# Altium footprint library Connector_Molex.PcbLib: 815 footprints (part 7 of 51)
Each footprint in its own frame and in the unit in brackets; x right, y up, seen from the top. Pads: shape width x height; smd on the part's side, far side on the other; paste and mask are expansions set on the pad; w line width, h text height; cw(c..) or ccw(c..) is an arc to the next point about the centre after c.
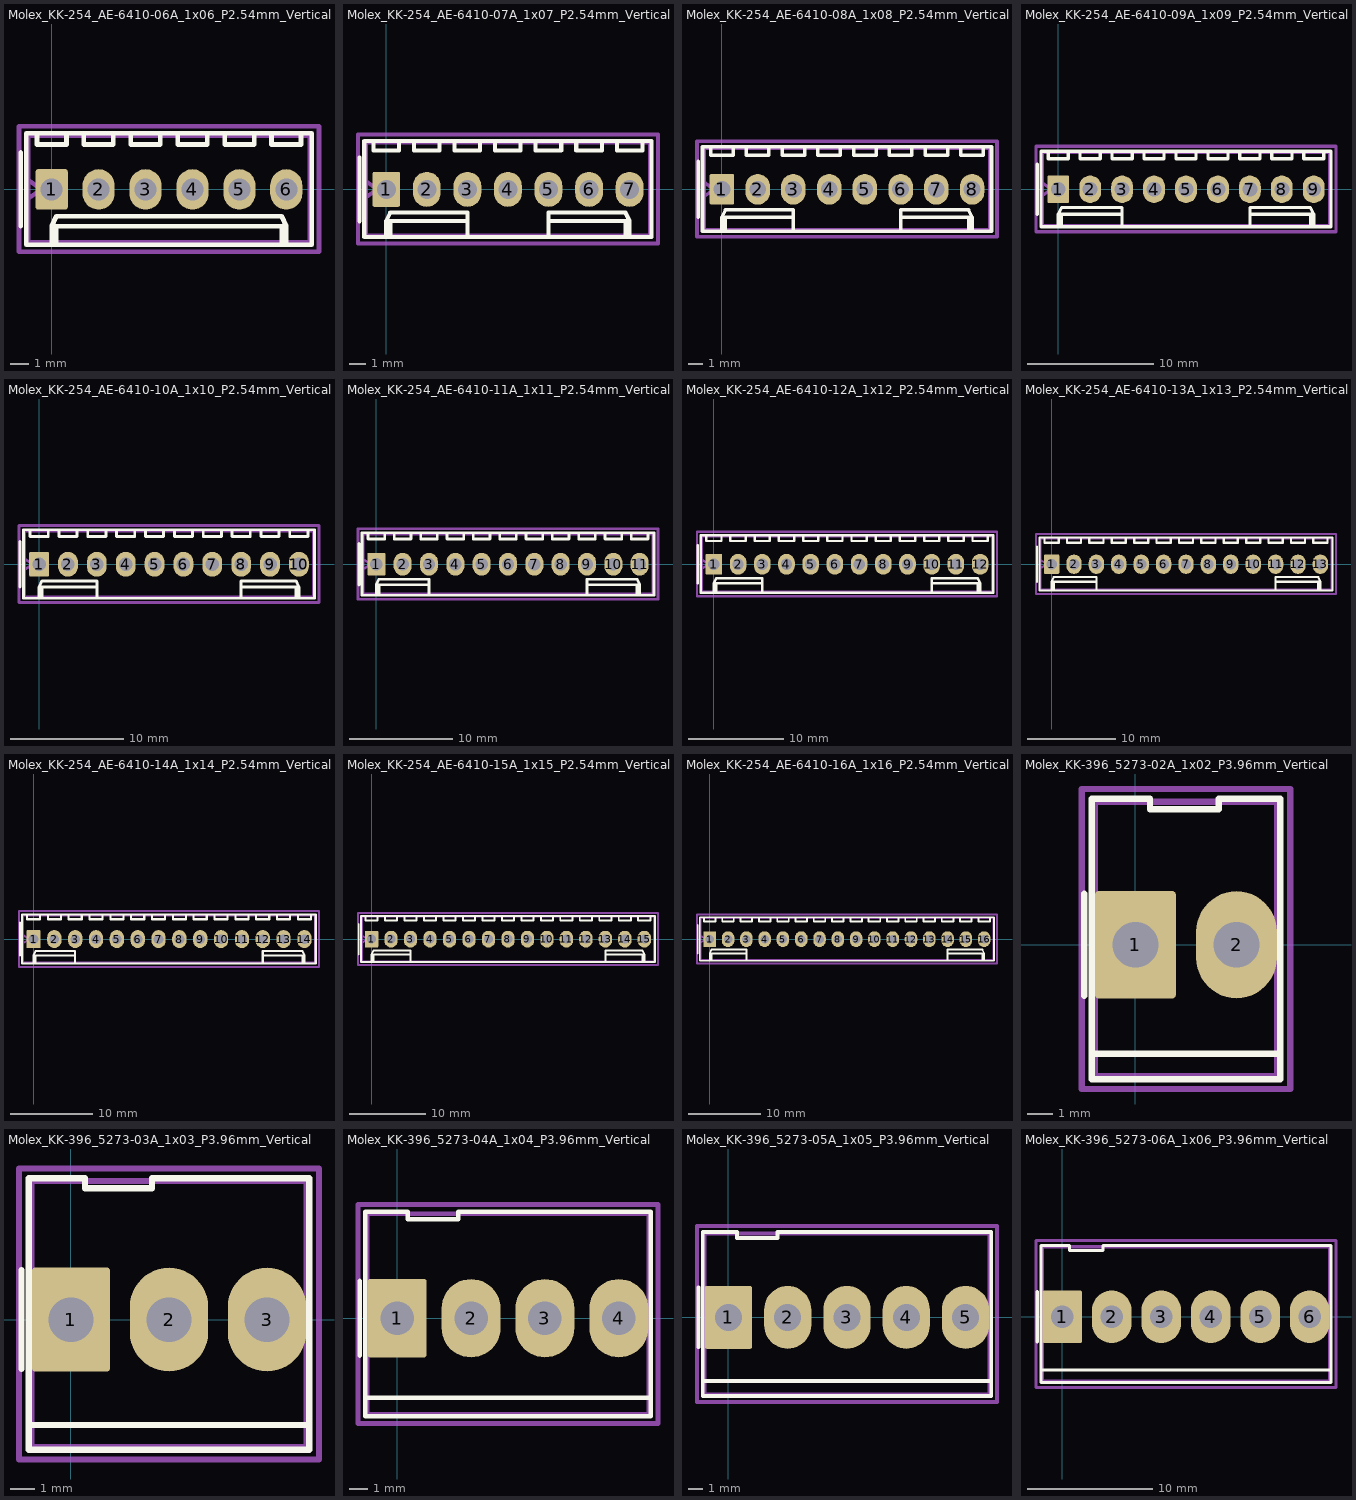
[diagram p6: the footprints below, top view; thin cyan lines are the x and y axes]

## Molex_KK-254_AE-6410-06A_1x06_P2.54mm_Vertical [mm]
pads (6):
  rrect14% 1.74x2.19 hole 1.19: 1(0,0)
  rrect100% 1.74x2.19 hole 1.19: 2(2.54,0) 3(5.08,0) 4(7.62,0) 5(10.16,0) 6(12.7,0)
F.SilkS:
  lines w0.254: -1.67,-2 -1.67,2 ; -0.8,3.03 -0.8,2.43 0.8,2.43 0.8,3.03 ; 0,-2.99 0,-1.99 ; 0.25,-2.99 0.25,-1.99 ; 1.74,3.03 1.74,2.43 3.34,2.43 3.34,3.03 ; 4.28,3.03 4.28,2.43 5.88,2.43 5.88,3.03 ; 6.82,3.03 6.82,2.43 8.42,2.43 8.42,3.03 ; 9.36,3.03 9.36,2.43 10.96,2.43 10.96,3.03 ; 11.9,3.03 11.9,2.43 13.5,2.43 13.5,3.03 ; 12.45,-2.99 12.45,-1.99 ; 12.7,-2.99 12.7,-1.99 ; 0,-1.99 12.7,-1.99 ; 0,-1.99 0.25,-1.46 12.45,-1.46 12.7,-1.99 ; -1.38,-2.99 14.08,-2.99 14.08,3.03 -1.38,3.03 -1.38,-2.99
Top Assembly:
  lines w0.254: -1.27,-0.5 -0.563,0 -1.27,0.5 ; -1.27,-2.88 13.97,-2.88 13.97,2.92 -1.27,2.92 -1.27,-2.88
  text "'.Designator'" at 2.303,1.38 h1
Top Courtyard:
  lines w0.254: -1.77,-3.38 14.47,-3.38 14.47,3.42 -1.77,3.42 -1.77,-3.38
Top Designator:
  text ".Designator" at -1.268,-0.488 h1.52

## Molex_KK-254_AE-6410-07A_1x07_P2.54mm_Vertical [mm]
pads (7):
  rrect14% 1.74x2.19 hole 1.19: 1(0,0)
  rrect100% 1.74x2.19 hole 1.19: 2(2.54,0) 3(5.08,0) 4(7.62,0) 5(10.16,0) 6(12.7,0) 7(15.24,0)
F.SilkS:
  lines w0.254: -1.67,-2 -1.67,2 ; -0.8,3.03 -0.8,2.43 0.8,2.43 0.8,3.03 ; 0,-2.99 0,-1.99 ; 0.25,-2.99 0.25,-1.99 ; 1.74,3.03 1.74,2.43 3.34,2.43 3.34,3.03 ; 4.28,3.03 4.28,2.43 5.88,2.43 5.88,3.03 ; 5.08,-2.99 5.08,-1.99 ; 6.82,3.03 6.82,2.43 8.42,2.43 8.42,3.03 ; 9.36,3.03 9.36,2.43 10.96,2.43 10.96,3.03 ; 10.16,-2.99 10.16,-1.99 ; 11.9,3.03 11.9,2.43 13.5,2.43 13.5,3.03 ; 14.44,3.03 14.44,2.43 16.04,2.43 16.04,3.03 ; 14.99,-2.99 14.99,-1.99 ; 15.24,-2.99 15.24,-1.99 ; 0,-1.99 5.08,-1.99 ; 0,-1.99 0.25,-1.46 5.08,-1.46 5.08,-1.99 ; 10.16,-1.99 15.24,-1.99 ; 10.16,-1.99 10.16,-1.46 14.99,-1.46 15.24,-1.99 ; -1.38,-2.99 16.62,-2.99 16.62,3.03 -1.38,3.03 -1.38,-2.99
Top Assembly:
  lines w0.254: -1.27,-0.5 -0.563,0 -1.27,0.5 ; -1.27,-2.88 16.51,-2.88 16.51,2.92 -1.27,2.92 -1.27,-2.88
  text "'.Designator'" at 3.573,1.38 h1
Top Courtyard:
  lines w0.254: -1.77,-3.38 17.02,-3.38 17.02,3.42 -1.77,3.42 -1.77,-3.38
Top Designator:
  text ".Designator" at 0.007,-0.488 h1.52

## Molex_KK-254_AE-6410-08A_1x08_P2.54mm_Vertical [mm]
pads (8):
  rrect14% 1.74x2.19 hole 1.19: 1(0,0)
  rrect100% 1.74x2.19 hole 1.19: 2(2.54,0) 3(5.08,0) 4(7.62,0) 5(10.16,0) 6(12.7,0) 7(15.24,0) 8(17.78,0)
F.SilkS:
  lines w0.254: -1.67,-2 -1.67,2 ; -0.8,3.03 -0.8,2.43 0.8,2.43 0.8,3.03 ; 0,-2.99 0,-1.99 ; 0.25,-2.99 0.25,-1.99 ; 1.74,3.03 1.74,2.43 3.34,2.43 3.34,3.03 ; 4.28,3.03 4.28,2.43 5.88,2.43 5.88,3.03 ; 5.08,-2.99 5.08,-1.99 ; 6.82,3.03 6.82,2.43 8.42,2.43 8.42,3.03 ; 9.36,3.03 9.36,2.43 10.96,2.43 10.96,3.03 ; 11.9,3.03 11.9,2.43 13.5,2.43 13.5,3.03 ; 12.7,-2.99 12.7,-1.99 ; 14.44,3.03 14.44,2.43 16.04,2.43 16.04,3.03 ; 16.98,3.03 16.98,2.43 18.58,2.43 18.58,3.03 ; 17.53,-2.99 17.53,-1.99 ; 17.78,-2.99 17.78,-1.99 ; 0,-1.99 5.08,-1.99 ; 0,-1.99 0.25,-1.46 5.08,-1.46 5.08,-1.99 ; 12.7,-1.99 17.78,-1.99 ; 12.7,-1.99 12.7,-1.46 17.53,-1.46 17.78,-1.99 ; -1.38,-2.99 19.16,-2.99 19.16,3.03 -1.38,3.03 -1.38,-2.99
Top Assembly:
  lines w0.254: -1.27,-0.5 -0.563,0 -1.27,0.5 ; -1.27,-2.88 19.05,-2.88 19.05,2.92 -1.27,2.92 -1.27,-2.88
  text "'.Designator'" at 4.843,1.38 h1
Top Courtyard:
  lines w0.254: -1.77,-3.38 19.55,-3.38 19.55,3.42 -1.77,3.42 -1.77,-3.38
Top Designator:
  text ".Designator" at 1.272,-0.488 h1.52

## Molex_KK-254_AE-6410-09A_1x09_P2.54mm_Vertical [mm]
pads (9):
  rrect14% 1.74x2.19 hole 1.19: 1(0,0)
  rrect100% 1.74x2.19 hole 1.19: 2(2.54,0) 3(5.08,0) 4(7.62,0) 5(10.16,0) 6(12.7,0) 7(15.24,0) 8(17.78,0) 9(20.32,0)
F.SilkS:
  lines w0.254: -1.67,-2 -1.67,2 ; -0.8,3.03 -0.8,2.43 0.8,2.43 0.8,3.03 ; 0,-2.99 0,-1.99 ; 0.25,-2.99 0.25,-1.99 ; 1.74,3.03 1.74,2.43 3.34,2.43 3.34,3.03 ; 4.28,3.03 4.28,2.43 5.88,2.43 5.88,3.03 ; 5.08,-2.99 5.08,-1.99 ; 6.82,3.03 6.82,2.43 8.42,2.43 8.42,3.03 ; 9.36,3.03 9.36,2.43 10.96,2.43 10.96,3.03 ; 11.9,3.03 11.9,2.43 13.5,2.43 13.5,3.03 ; 14.44,3.03 14.44,2.43 16.04,2.43 16.04,3.03 ; 15.24,-2.99 15.24,-1.99 ; 16.98,3.03 16.98,2.43 18.58,2.43 18.58,3.03 ; 19.52,3.03 19.52,2.43 21.12,2.43 21.12,3.03 ; 20.07,-2.99 20.07,-1.99 ; 20.32,-2.99 20.32,-1.99 ; 0,-1.99 5.08,-1.99 ; 0,-1.99 0.25,-1.46 5.08,-1.46 5.08,-1.99 ; 15.24,-1.99 20.32,-1.99 ; 15.24,-1.99 15.24,-1.46 20.07,-1.46 20.32,-1.99 ; -1.38,-2.99 21.7,-2.99 21.7,3.03 -1.38,3.03 -1.38,-2.99
Top Assembly:
  lines w0.254: -1.27,-0.5 -0.563,0 -1.27,0.5 ; -1.27,-2.88 21.59,-2.88 21.59,2.92 -1.27,2.92 -1.27,-2.88
  text "'.Designator'" at 6.113,1.38 h1
Top Courtyard:
  lines w0.254: -1.77,-3.38 22.09,-3.38 22.09,3.42 -1.77,3.42 -1.77,-3.38
Top Designator:
  text ".Designator" at 2.542,-0.488 h1.52

## Molex_KK-254_AE-6410-10A_1x10_P2.54mm_Vertical [mm]
pads (10):
  rrect14% 1.74x2.19 hole 1.19: 1(0,0)
  rrect100% 1.74x2.19 hole 1.19: 2(2.54,0) 3(5.08,0) 4(7.62,0) 5(10.16,0) 6(12.7,0) 7(15.24,0) 8(17.78,0) 9(20.32,0) 10(22.86,0)
F.SilkS:
  lines w0.254: -1.67,-2 -1.67,2 ; -0.8,3.03 -0.8,2.43 0.8,2.43 0.8,3.03 ; 0,-2.99 0,-1.99 ; 0.25,-2.99 0.25,-1.99 ; 1.74,3.03 1.74,2.43 3.34,2.43 3.34,3.03 ; 4.28,3.03 4.28,2.43 5.88,2.43 5.88,3.03 ; 5.08,-2.99 5.08,-1.99 ; 6.82,3.03 6.82,2.43 8.42,2.43 8.42,3.03 ; 9.36,3.03 9.36,2.43 10.96,2.43 10.96,3.03 ; 11.9,3.03 11.9,2.43 13.5,2.43 13.5,3.03 ; 14.44,3.03 14.44,2.43 16.04,2.43 16.04,3.03 ; 16.98,3.03 16.98,2.43 18.58,2.43 18.58,3.03 ; 17.78,-2.99 17.78,-1.99 ; 19.52,3.03 19.52,2.43 21.12,2.43 21.12,3.03 ; 22.06,3.03 22.06,2.43 23.66,2.43 23.66,3.03 ; 22.61,-2.99 22.61,-1.99 ; 22.86,-2.99 22.86,-1.99 ; 0,-1.99 5.08,-1.99 ; 0,-1.99 0.25,-1.46 5.08,-1.46 5.08,-1.99 ; 17.78,-1.99 22.86,-1.99 ; 17.78,-1.99 17.78,-1.46 22.61,-1.46 22.86,-1.99 ; -1.38,-2.99 24.24,-2.99 24.24,3.03 -1.38,3.03 -1.38,-2.99
Top Assembly:
  lines w0.254: -1.27,-0.5 -0.563,0 -1.27,0.5 ; -1.27,-2.88 24.13,-2.88 24.13,2.92 -1.27,2.92 -1.27,-2.88
  text "'.Designator'" at 7.383,1.38 h1
Top Courtyard:
  lines w0.254: -1.77,-3.38 24.63,-3.38 24.63,3.42 -1.77,3.42 -1.77,-3.38
Top Designator:
  text ".Designator" at 3.812,-0.488 h1.52

## Molex_KK-254_AE-6410-11A_1x11_P2.54mm_Vertical [mm]
pads (11):
  rrect14% 1.74x2.19 hole 1.19: 1(0,0)
  rrect100% 1.74x2.19 hole 1.19: 2(2.54,0) 3(5.08,0) 4(7.62,0) 5(10.16,0) 6(12.7,0) 7(15.24,0) 8(17.78,0) 9(20.32,0) 10(22.86,0) 11(25.4,0)
F.SilkS:
  lines w0.254: -1.67,-2 -1.67,2 ; -0.8,3.03 -0.8,2.43 0.8,2.43 0.8,3.03 ; 0,-2.99 0,-1.99 ; 0.25,-2.99 0.25,-1.99 ; 1.74,3.03 1.74,2.43 3.34,2.43 3.34,3.03 ; 4.28,3.03 4.28,2.43 5.88,2.43 5.88,3.03 ; 5.08,-2.99 5.08,-1.99 ; 6.82,3.03 6.82,2.43 8.42,2.43 8.42,3.03 ; 9.36,3.03 9.36,2.43 10.96,2.43 10.96,3.03 ; 11.9,3.03 11.9,2.43 13.5,2.43 13.5,3.03 ; 14.44,3.03 14.44,2.43 16.04,2.43 16.04,3.03 ; 16.98,3.03 16.98,2.43 18.58,2.43 18.58,3.03 ; 19.52,3.03 19.52,2.43 21.12,2.43 21.12,3.03 ; 20.32,-2.99 20.32,-1.99 ; 22.06,3.03 22.06,2.43 23.66,2.43 23.66,3.03 ; 24.6,3.03 24.6,2.43 26.2,2.43 26.2,3.03 ; 25.15,-2.99 25.15,-1.99 ; 25.4,-2.99 25.4,-1.99 ; 0,-1.99 5.08,-1.99 ; 0,-1.99 0.25,-1.46 5.08,-1.46 5.08,-1.99 ; 20.32,-1.99 25.4,-1.99 ; 20.32,-1.99 20.32,-1.46 25.15,-1.46 25.4,-1.99 ; -1.38,-2.99 26.78,-2.99 26.78,3.03 -1.38,3.03 -1.38,-2.99
Top Assembly:
  lines w0.254: -1.27,-0.5 -0.563,0 -1.27,0.5 ; -1.27,-2.88 26.67,-2.88 26.67,2.92 -1.27,2.92 -1.27,-2.88
  text "'.Designator'" at 8.653,1.38 h1
Top Courtyard:
  lines w0.254: -1.77,-3.38 27.17,-3.38 27.17,3.42 -1.77,3.42 -1.77,-3.38
Top Designator:
  text ".Designator" at 5.082,-0.488 h1.52

## Molex_KK-254_AE-6410-12A_1x12_P2.54mm_Vertical [mm]
pads (12):
  rrect14% 1.74x2.19 hole 1.19: 1(0,0)
  rrect100% 1.74x2.19 hole 1.19: 2(2.54,0) 3(5.08,0) 4(7.62,0) 5(10.16,0) 6(12.7,0) 7(15.24,0) 8(17.78,0) 9(20.32,0) 10(22.86,0) 11(25.4,0) 12(27.94,0)
F.SilkS:
  lines w0.254: -1.67,-2 -1.67,2 ; -0.8,3.03 -0.8,2.43 0.8,2.43 0.8,3.03 ; 0,-2.99 0,-1.99 ; 0.25,-2.99 0.25,-1.99 ; 1.74,3.03 1.74,2.43 3.34,2.43 3.34,3.03 ; 4.28,3.03 4.28,2.43 5.88,2.43 5.88,3.03 ; 5.08,-2.99 5.08,-1.99 ; 6.82,3.03 6.82,2.43 8.42,2.43 8.42,3.03 ; 9.36,3.03 9.36,2.43 10.96,2.43 10.96,3.03 ; 11.9,3.03 11.9,2.43 13.5,2.43 13.5,3.03 ; 14.44,3.03 14.44,2.43 16.04,2.43 16.04,3.03 ; 16.98,3.03 16.98,2.43 18.58,2.43 18.58,3.03 ; 19.52,3.03 19.52,2.43 21.12,2.43 21.12,3.03 ; 22.06,3.03 22.06,2.43 23.66,2.43 23.66,3.03 ; 22.86,-2.99 22.86,-1.99 ; 24.6,3.03 24.6,2.43 26.2,2.43 26.2,3.03 ; 27.14,3.03 27.14,2.43 28.74,2.43 28.74,3.03 ; 27.69,-2.99 27.69,-1.99 ; 27.94,-2.99 27.94,-1.99 ; 0,-1.99 5.08,-1.99 ; 0,-1.99 0.25,-1.46 5.08,-1.46 5.08,-1.99 ; 22.86,-1.99 27.94,-1.99 ; 22.86,-1.99 22.86,-1.46 27.69,-1.46 27.94,-1.99 ; -1.38,-2.99 29.32,-2.99 29.32,3.03 -1.38,3.03 -1.38,-2.99
Top Assembly:
  lines w0.254: -1.27,-0.5 -0.563,0 -1.27,0.5 ; -1.27,-2.88 29.21,-2.88 29.21,2.92 -1.27,2.92 -1.27,-2.88
  text "'.Designator'" at 9.923,1.38 h1
Top Courtyard:
  lines w0.254: -1.77,-3.38 29.71,-3.38 29.71,3.42 -1.77,3.42 -1.77,-3.38
Top Designator:
  text ".Designator" at 6.352,-0.488 h1.52

## Molex_KK-254_AE-6410-13A_1x13_P2.54mm_Vertical [mm]
pads (13):
  rrect14% 1.74x2.19 hole 1.19: 1(0,0)
  rrect100% 1.74x2.19 hole 1.19: 2(2.54,0) 3(5.08,0) 4(7.62,0) 5(10.16,0) 6(12.7,0) 7(15.24,0) 8(17.78,0) 9(20.32,0) 10(22.86,0) 11(25.4,0) 12(27.94,0) 13(30.48,0)
F.SilkS:
  lines w0.254: -1.67,-2 -1.67,2 ; -0.8,3.03 -0.8,2.43 0.8,2.43 0.8,3.03 ; 0,-2.99 0,-1.99 ; 0.25,-2.99 0.25,-1.99 ; 1.74,3.03 1.74,2.43 3.34,2.43 3.34,3.03 ; 4.28,3.03 4.28,2.43 5.88,2.43 5.88,3.03 ; 5.08,-2.99 5.08,-1.99 ; 6.82,3.03 6.82,2.43 8.42,2.43 8.42,3.03 ; 9.36,3.03 9.36,2.43 10.96,2.43 10.96,3.03 ; 11.9,3.03 11.9,2.43 13.5,2.43 13.5,3.03 ; 14.44,3.03 14.44,2.43 16.04,2.43 16.04,3.03 ; 16.98,3.03 16.98,2.43 18.58,2.43 18.58,3.03 ; 19.52,3.03 19.52,2.43 21.12,2.43 21.12,3.03 ; 22.06,3.03 22.06,2.43 23.66,2.43 23.66,3.03 ; 24.6,3.03 24.6,2.43 26.2,2.43 26.2,3.03 ; 25.4,-2.99 25.4,-1.99 ; 27.14,3.03 27.14,2.43 28.74,2.43 28.74,3.03 ; 29.68,3.03 29.68,2.43 31.28,2.43 31.28,3.03 ; 30.23,-2.99 30.23,-1.99 ; 30.48,-2.99 30.48,-1.99 ; 0,-1.99 5.08,-1.99 ; 0,-1.99 0.25,-1.46 5.08,-1.46 5.08,-1.99 ; 25.4,-1.99 30.48,-1.99 ; 25.4,-1.99 25.4,-1.46 30.23,-1.46 30.48,-1.99 ; -1.38,-2.99 31.86,-2.99 31.86,3.03 -1.38,3.03 -1.38,-2.99
Top Assembly:
  lines w0.254: -1.27,-0.5 -0.563,0 -1.27,0.5 ; -1.27,-2.88 31.75,-2.88 31.75,2.92 -1.27,2.92 -1.27,-2.88
  text "'.Designator'" at 11.193,1.38 h1
Top Courtyard:
  lines w0.254: -1.77,-3.38 32.25,-3.38 32.25,3.42 -1.77,3.42 -1.77,-3.38
Top Designator:
  text ".Designator" at 7.622,-0.488 h1.52

## Molex_KK-254_AE-6410-14A_1x14_P2.54mm_Vertical [mm]
pads (14):
  rrect14% 1.74x2.19 hole 1.19: 1(0,0)
  rrect100% 1.74x2.19 hole 1.19: 2(2.54,0) 3(5.08,0) 4(7.62,0) 5(10.16,0) 6(12.7,0) 7(15.24,0) 8(17.78,0) 9(20.32,0) 10(22.86,0) 11(25.4,0) 12(27.94,0) 13(30.48,0) 14(33.02,0)
F.SilkS:
  lines w0.254: -1.67,-2 -1.67,2 ; -0.8,3.03 -0.8,2.43 0.8,2.43 0.8,3.03 ; 0,-2.99 0,-1.99 ; 0.25,-2.99 0.25,-1.99 ; 1.74,3.03 1.74,2.43 3.34,2.43 3.34,3.03 ; 4.28,3.03 4.28,2.43 5.88,2.43 5.88,3.03 ; 5.08,-2.99 5.08,-1.99 ; 6.82,3.03 6.82,2.43 8.42,2.43 8.42,3.03 ; 9.36,3.03 9.36,2.43 10.96,2.43 10.96,3.03 ; 11.9,3.03 11.9,2.43 13.5,2.43 13.5,3.03 ; 14.44,3.03 14.44,2.43 16.04,2.43 16.04,3.03 ; 16.98,3.03 16.98,2.43 18.58,2.43 18.58,3.03 ; 19.52,3.03 19.52,2.43 21.12,2.43 21.12,3.03 ; 22.06,3.03 22.06,2.43 23.66,2.43 23.66,3.03 ; 24.6,3.03 24.6,2.43 26.2,2.43 26.2,3.03 ; 27.14,3.03 27.14,2.43 28.74,2.43 28.74,3.03 ; 27.94,-2.99 27.94,-1.99 ; 29.68,3.03 29.68,2.43 31.28,2.43 31.28,3.03 ; 32.22,3.03 32.22,2.43 33.82,2.43 33.82,3.03 ; 32.77,-2.99 32.77,-1.99 ; 33.02,-2.99 33.02,-1.99 ; 0,-1.99 5.08,-1.99 ; 0,-1.99 0.25,-1.46 5.08,-1.46 5.08,-1.99 ; 27.94,-1.99 33.02,-1.99 ; 27.94,-1.99 27.94,-1.46 32.77,-1.46 33.02,-1.99 ; -1.38,-2.99 34.4,-2.99 34.4,3.03 -1.38,3.03 -1.38,-2.99
Top Assembly:
  lines w0.254: -1.27,-0.5 -0.563,0 -1.27,0.5 ; -1.27,-2.88 34.29,-2.88 34.29,2.92 -1.27,2.92 -1.27,-2.88
  text "'.Designator'" at 12.463,1.38 h1
Top Courtyard:
  lines w0.254: -1.77,-3.38 34.8,-3.38 34.8,3.42 -1.77,3.42 -1.77,-3.38
Top Designator:
  text ".Designator" at 8.897,-0.488 h1.52

## Molex_KK-254_AE-6410-15A_1x15_P2.54mm_Vertical [mm]
pads (15):
  rrect14% 1.74x2.19 hole 1.19: 1(0,0)
  rrect100% 1.74x2.19 hole 1.19: 2(2.54,0) 3(5.08,0) 4(7.62,0) 5(10.16,0) 6(12.7,0) 7(15.24,0) 8(17.78,0) 9(20.32,0) 10(22.86,0) 11(25.4,0) 12(27.94,0) 13(30.48,0) 14(33.02,0) 15(35.56,0)
F.SilkS:
  lines w0.254: -1.67,-2 -1.67,2 ; -0.8,3.03 -0.8,2.43 0.8,2.43 0.8,3.03 ; 0,-2.99 0,-1.99 ; 0.25,-2.99 0.25,-1.99 ; 1.74,3.03 1.74,2.43 3.34,2.43 3.34,3.03 ; 4.28,3.03 4.28,2.43 5.88,2.43 5.88,3.03 ; 5.08,-2.99 5.08,-1.99 ; 6.82,3.03 6.82,2.43 8.42,2.43 8.42,3.03 ; 9.36,3.03 9.36,2.43 10.96,2.43 10.96,3.03 ; 11.9,3.03 11.9,2.43 13.5,2.43 13.5,3.03 ; 14.44,3.03 14.44,2.43 16.04,2.43 16.04,3.03 ; 16.98,3.03 16.98,2.43 18.58,2.43 18.58,3.03 ; 19.52,3.03 19.52,2.43 21.12,2.43 21.12,3.03 ; 22.06,3.03 22.06,2.43 23.66,2.43 23.66,3.03 ; 24.6,3.03 24.6,2.43 26.2,2.43 26.2,3.03 ; 27.14,3.03 27.14,2.43 28.74,2.43 28.74,3.03 ; 29.68,3.03 29.68,2.43 31.28,2.43 31.28,3.03 ; 30.48,-2.99 30.48,-1.99 ; 32.22,3.03 32.22,2.43 33.82,2.43 33.82,3.03 ; 34.76,3.03 34.76,2.43 36.36,2.43 36.36,3.03 ; 35.31,-2.99 35.31,-1.99 ; 35.56,-2.99 35.56,-1.99 ; 0,-1.99 5.08,-1.99 ; 0,-1.99 0.25,-1.46 5.08,-1.46 5.08,-1.99 ; 30.48,-1.99 35.56,-1.99 ; 30.48,-1.99 30.48,-1.46 35.31,-1.46 35.56,-1.99 ; -1.38,-2.99 36.94,-2.99 36.94,3.03 -1.38,3.03 -1.38,-2.99
Top Assembly:
  lines w0.254: -1.27,-0.5 -0.563,0 -1.27,0.5 ; -1.27,-2.88 36.83,-2.88 36.83,2.92 -1.27,2.92 -1.27,-2.88
  text "'.Designator'" at 13.733,1.38 h1
Top Courtyard:
  lines w0.254: -1.77,-3.38 37.34,-3.38 37.34,3.42 -1.77,3.42 -1.77,-3.38
Top Designator:
  text ".Designator" at 10.167,-0.488 h1.52

## Molex_KK-254_AE-6410-16A_1x16_P2.54mm_Vertical [mm]
pads (16):
  rrect14% 1.74x2.19 hole 1.19: 1(0,0)
  rrect100% 1.74x2.19 hole 1.19: 2(2.54,0) 3(5.08,0) 4(7.62,0) 5(10.16,0) 6(12.7,0) 7(15.24,0) 8(17.78,0) 9(20.32,0) 10(22.86,0) 11(25.4,0) 12(27.94,0) 13(30.48,0) 14(33.02,0) 15(35.56,0) 16(38.1,0)
F.SilkS:
  lines w0.254: -1.67,-2 -1.67,2 ; -0.8,3.03 -0.8,2.43 0.8,2.43 0.8,3.03 ; 0,-2.99 0,-1.99 ; 0.25,-2.99 0.25,-1.99 ; 1.74,3.03 1.74,2.43 3.34,2.43 3.34,3.03 ; 4.28,3.03 4.28,2.43 5.88,2.43 5.88,3.03 ; 5.08,-2.99 5.08,-1.99 ; 6.82,3.03 6.82,2.43 8.42,2.43 8.42,3.03 ; 9.36,3.03 9.36,2.43 10.96,2.43 10.96,3.03 ; 11.9,3.03 11.9,2.43 13.5,2.43 13.5,3.03 ; 14.44,3.03 14.44,2.43 16.04,2.43 16.04,3.03 ; 16.98,3.03 16.98,2.43 18.58,2.43 18.58,3.03 ; 19.52,3.03 19.52,2.43 21.12,2.43 21.12,3.03 ; 22.06,3.03 22.06,2.43 23.66,2.43 23.66,3.03 ; 24.6,3.03 24.6,2.43 26.2,2.43 26.2,3.03 ; 27.14,3.03 27.14,2.43 28.74,2.43 28.74,3.03 ; 29.68,3.03 29.68,2.43 31.28,2.43 31.28,3.03 ; 32.22,3.03 32.22,2.43 33.82,2.43 33.82,3.03 ; 33.02,-2.99 33.02,-1.99 ; 34.76,3.03 34.76,2.43 36.36,2.43 36.36,3.03 ; 37.3,3.03 37.3,2.43 38.9,2.43 38.9,3.03 ; 37.85,-2.99 37.85,-1.99 ; 38.1,-2.99 38.1,-1.99 ; 0,-1.99 5.08,-1.99 ; 0,-1.99 0.25,-1.46 5.08,-1.46 5.08,-1.99 ; 33.02,-1.99 38.1,-1.99 ; 33.02,-1.99 33.02,-1.46 37.85,-1.46 38.1,-1.99 ; -1.38,-2.99 39.48,-2.99 39.48,3.03 -1.38,3.03 -1.38,-2.99
Top Assembly:
  lines w0.254: -1.27,-0.5 -0.563,0 -1.27,0.5 ; -1.27,-2.88 39.37,-2.88 39.37,2.92 -1.27,2.92 -1.27,-2.88
  text "'.Designator'" at 15.003,1.38 h1
Top Courtyard:
  lines w0.254: -1.77,-3.38 39.88,-3.38 39.88,3.42 -1.77,3.42 -1.77,-3.38
Top Designator:
  text ".Designator" at 11.437,-0.488 h1.52

## Molex_KK-396_5273-02A_1x02_P3.96mm_Vertical [mm]
pads (2):
  rrect8% 3.16x4.2 hole 1.8: 1(0,0)
  rrect100% 3.16x4.2 hole 1.8: 2(3.96,0)
F.SilkS:
  lines w0.254: -2,-2 -2,2 ; 5.67,-4.26 -1.71,-4.26 ; -1.71,-4.26 -1.71,-5.26 5.67,-5.26 5.67,5.71 3.27,5.71 3.27,5.31 0.57,5.31 0.57,5.71 -1.71,5.71 -1.71,-4.26
Top Assembly:
  lines w0.254: -1.6,-0.5 -0.893,0 -1.6,0.5 ; -1.6,-5.15 5.56,-5.15 5.56,5.6 -1.6,5.6 -1.6,-5.15
  text "'.Designator'" at -2.067,4.06 h1
Top Courtyard:
  lines w0.254: -2.1,-5.65 6.06,-5.65 6.06,6.1 -2.1,6.1 -2.1,-5.65
Top Designator:
  text ".Designator" at -5.638,-0.283 h1.52

## Molex_KK-396_5273-03A_1x03_P3.96mm_Vertical [mm]
pads (3):
  rrect8% 3.16x4.2 hole 1.8: 1(0,0)
  rrect100% 3.16x4.2 hole 1.8: 2(3.96,0) 3(7.92,0)
F.SilkS:
  lines w0.254: -2,-2 -2,2 ; 9.63,-4.26 -1.71,-4.26 ; -1.71,-4.26 -1.71,-5.26 9.63,-5.26 9.63,5.71 3.27,5.71 3.27,5.31 0.57,5.31 0.57,5.71 -1.71,5.71 -1.71,-4.26
Top Assembly:
  lines w0.254: -1.6,-0.5 -0.893,0 -1.6,0.5 ; -1.6,-5.15 9.52,-5.15 9.52,5.6 -1.6,5.6 -1.6,-5.15
  text "'.Designator'" at -0.087,4.06 h1
Top Courtyard:
  lines w0.254: -2.1,-5.65 10.02,-5.65 10.02,6.1 -2.1,6.1 -2.1,-5.65
Top Designator:
  text ".Designator" at -3.658,-0.283 h1.52

## Molex_KK-396_5273-04A_1x04_P3.96mm_Vertical [mm]
pads (4):
  rrect8% 3.16x4.2 hole 1.8: 1(0,0)
  rrect100% 3.16x4.2 hole 1.8: 2(3.96,0) 3(7.92,0) 4(11.88,0)
F.SilkS:
  lines w0.254: -2,-2 -2,2 ; 13.59,-4.26 -1.71,-4.26 ; -1.71,-4.26 -1.71,-5.26 13.59,-5.26 13.59,5.71 3.27,5.71 3.27,5.31 0.57,5.31 0.57,5.71 -1.71,5.71 -1.71,-4.26
Top Assembly:
  lines w0.254: -1.6,-0.5 -0.893,0 -1.6,0.5 ; -1.6,-5.15 13.48,-5.15 13.48,5.6 -1.6,5.6 -1.6,-5.15
  text "'.Designator'" at 1.893,4.06 h1
Top Courtyard:
  lines w0.254: -2.1,-5.65 13.98,-5.65 13.98,6.1 -2.1,6.1 -2.1,-5.65
Top Designator:
  text ".Designator" at -1.678,-0.283 h1.52

## Molex_KK-396_5273-05A_1x05_P3.96mm_Vertical [mm]
pads (5):
  rrect8% 3.16x4.2 hole 1.8: 1(0,0)
  rrect100% 3.16x4.2 hole 1.8: 2(3.96,0) 3(7.92,0) 4(11.88,0) 5(15.84,0)
F.SilkS:
  lines w0.254: -2,-2 -2,2 ; 17.55,-4.26 -1.71,-4.26 ; -1.71,-4.26 -1.71,-5.26 17.55,-5.26 17.55,5.71 3.27,5.71 3.27,5.31 0.57,5.31 0.57,5.71 -1.71,5.71 -1.71,-4.26
Top Assembly:
  lines w0.254: -1.6,-0.5 -0.893,0 -1.6,0.5 ; -1.6,-5.15 17.44,-5.15 17.44,5.6 -1.6,5.6 -1.6,-5.15
  text "'.Designator'" at 3.873,4.06 h1
Top Courtyard:
  lines w0.254: -2.1,-5.65 17.94,-5.65 17.94,6.1 -2.1,6.1 -2.1,-5.65
Top Designator:
  text ".Designator" at 0.302,-0.283 h1.52

## Molex_KK-396_5273-06A_1x06_P3.96mm_Vertical [mm]
pads (6):
  rrect8% 3.16x4.2 hole 1.8: 1(0,0)
  rrect100% 3.16x4.2 hole 1.8: 2(3.96,0) 3(7.92,0) 4(11.88,0) 5(15.84,0) 6(19.8,0)
F.SilkS:
  lines w0.254: -2,-2 -2,2 ; 21.51,-4.26 -1.71,-4.26 ; -1.71,-4.26 -1.71,-5.26 21.51,-5.26 21.51,5.71 3.27,5.71 3.27,5.31 0.57,5.31 0.57,5.71 -1.71,5.71 -1.71,-4.26
Top Assembly:
  lines w0.254: -1.6,-0.5 -0.893,0 -1.6,0.5 ; -1.6,-5.15 21.4,-5.15 21.4,5.6 -1.6,5.6 -1.6,-5.15
  text "'.Designator'" at 5.853,4.06 h1
Top Courtyard:
  lines w0.254: -2.1,-5.65 21.9,-5.65 21.9,6.1 -2.1,6.1 -2.1,-5.65
Top Designator:
  text ".Designator" at 2.282,-0.283 h1.52